# EAGLE library part IV-8 (library russian-vfds)
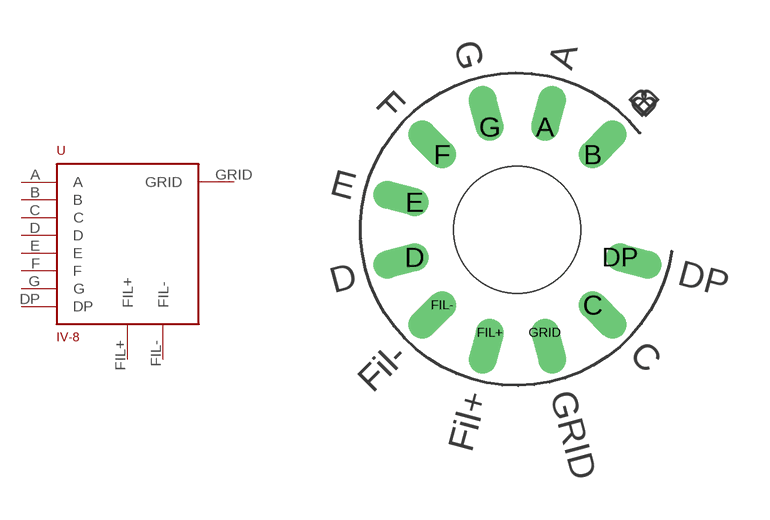
[diagram p0: symbol with the pads of IV-8; footprint IV-8]

Designator prefix -

## IV-8  [IV-8]
A  A  in
B  B  in
C  C
D  D  in
DP  DP
E  E
F  F
FIL+  FIL+
FIL-  FIL-
G  G
GRID  GRID  in

## Footprint IV-8 (pad centres in mm)
IV-6 russian VFD display tube
drill 0.6 offset: A 1.085,4.048; B 2.963,2.963; C 2.963,-2.963; D -4.048,-1.085; DP 4.048,-1.085; E -4.048,1.085; F -2.963,2.963; FIL+ -1.085,-4.048; FIL- -2.963,-2.963; G -1.085,4.048; GRID 1.085,-4.048
hole 5.004 at 0,0